# EAGLE library part SITDR (library wheat)
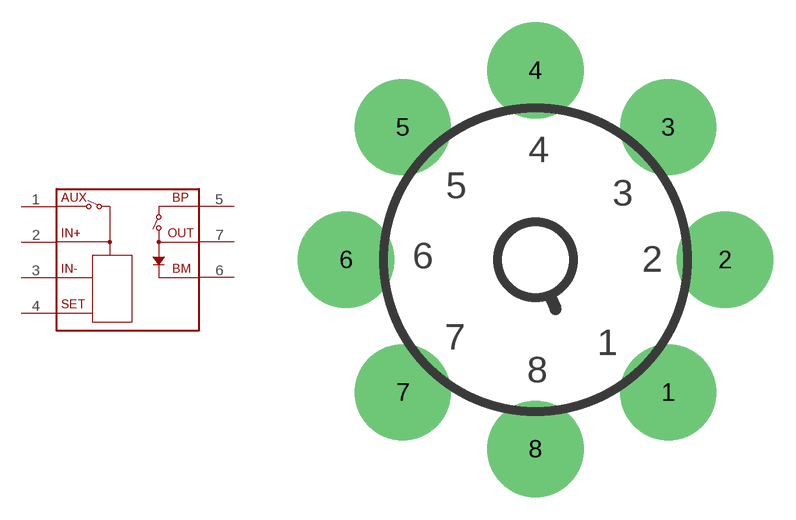
[diagram p209: symbol with the pads of OCTAL; footprint OCTAL]

Designator prefix K

## SITDR  [OCTAL]
1  AUX
2  IN+
3  IN-
4  CFG
5  BP
6  BM
7  OUT

## Footprint OCTAL (pad centres in mm)
OCTAL TUBE SOCKET, TOP MOUNT
drill 2.54 pad 6.452: 1 8.89,-8.89; 2 12.7,0; 3 8.89,8.89; 4 0,12.7; 5 -8.89,8.89; 6 -12.7,0; 7 -8.89,-8.89; 8 0,-12.7